# Altium schematic symbol library Passives.SchLib: 10 symbols
Pins are listed as number, name and electrical type; pins without a type are passive.

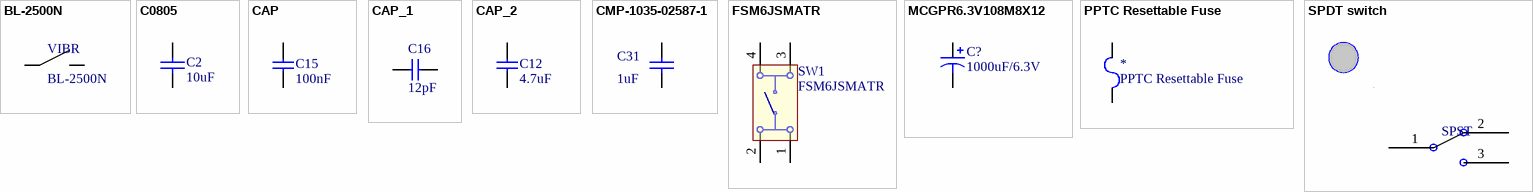
[diagram p0: symbols BL-2500N to SPDT switch]

## BL-2500N
designator VIBR
Vibration Sensor Switch
footprint BL-2500N (Vibration sensor switch)
pins: 1, 2

## C0805
designator C2, comment 10uF
Ceramic Chip Capacitor - Standard; Note: Footprint corresponds to dimensions for bulk cassette packaging. This case size has tightened tolerances.; Published: 17-Jul-2002; LatestRevisionDate: 19-Mar-2004; LatestRevisionNote: Silkscreen size reduced.; DatasheetDocument: Mar-2001; PackageDocument: Mar-2001; PackageReference: 0805; Publisher: Altium Limited; Code_JEITA: 0805; Code_IPC: 2012[0805]; ComponentLink1Description: Manufacturer Link; ComponentLink1URL: http://www.kemet.com/; ComponentLink2Description: Datasheet; ComponentLink2URL: http://www.kemet.com/kemet/web/homepage/kechome.nsf/vapubfilesname/F3102TA.pdf/$file/F3102TA.pdf; Value: 10uF
footprint 0805 (Chip Capacitor; Body 2.0 x 1.2 mm (LxW typ))
simulation model CAP (Capacitor)
signal-integrity model C0805
pins: 1, 2

## CAP
designator C15, comment 100nF
Capacitor, X7R, ±10%; Part Number: C0402-100n; Note: 16V; Artikkelnr Noca: 20039200; Artikkelnr Simpro: N.A.; Manufacturer: *; Manufacturer Part Number: *; Datasheet: *; LatestRevisionDate: 2009-11-23; Pin Count: 2; Publisher: Nordic Semiconductor; Published: 2009-05-08; Value: 100nF; Supplier: *; Supplier part number: *; 2nd source Supplier: *; 2nd source part number: *; Footprint Doc: 0402
footprint CAPC1005X04L
footprint CAP0603
pins: 1, 2

## CAP_1
designator C16, comment 12pF
Capacitor, NP0, ±2%; Part Number: C0402-12p; Note: 50V; Artikkelnr Noca: 20029159; Artikkelnr Simpro: N.A.; Manufacturer: *; Manufacturer Part Number: *; Datasheet: *; LatestRevisionDate: 2011-05-11; Pin Count: 2; Publisher: Nordic Semiconductor; Published: 2009-05-08; Value: 12pF; Supplier: *; Supplier part number: *; 2nd source Supplier: *; 2nd source part number: *; Footprint Doc: 0402
footprint CAPC1005X04L (Chip Capacitor, 2-Leads, Body 1.0x0.5mm, IPC High Density)
pins: 1, 2

## CAP_2
designator C12, comment 4.7uF
Capacitor, X5R, ±10%; Part Number: C0603-4µ7; Note: 6.3V; Artikkelnr Noca: 20069060; Artikkelnr Simpro: N.A.; Manufacturer: *; Manufacturer Part Number: *; Datasheet: *; LatestRevisionDate: 2009-11-23; Pin Count: 2; Publisher: Nordic Semiconductor; Published: 2009-05-08; Value: 4.7uF; Supplier: *; Supplier part number: *; 2nd source Supplier: *; 2nd source part number: *; Footprint Doc: 0603
footprint CAPC1608X06L
pins: 1, 2

## CMP-1035-02587-1
designator C31, comment 1uF
Case-EIA: 0603; Tolerance: ±5%; Rated Voltage: 25 V; Case-Metric: 1608; Technology: SMT; Max Thickness: 1 mm; Value: 1uF
footprint CAPC0603(1608)100_M (Chip Capacitor, Body 1.6x0.8mm, Height 1.0mm, IPC Low Density)
footprint CAPC0603(1608)100_L (Chip Capacitor, Body 1.6x0.8mm, Height 1.0mm, IPC High Density)
footprint CAPC1005L (Chip Capacitor, Body 1.0x0.5mm, IPC High Density)
footprint CAPC1005N (Chip Capacitor, Body 1.0x0.5mm, IPC Medium Density)
footprint CAPC1608L
pins: 1, 2
1 alternate drawing of the same symbol

## FSM6JSMATR
designator SW1
footprint FSMJSMA (TE switch SMT)
pins: 1, 2, 3, 4

## MCGPR6.3V108M8X12
designator C?, comment 1000uF/6.3V
CAP ALUM 1000UF 6.3V 20% RADIAL; PartNumber: ECA-1JHG471; ComponentLink1Description: Datasheet; PackageReference: ECA-1JHG471
footprint MCGPR6.3V108M8X12
pins: 1 +, 2 -

## PPTC Resettable Fuse
designator *
footprint FUSC0805
pins: 1, 2

## SPDT switch
designator SPST  (value not drawn)
footprint SPST switch (MGU switch)
pins: 1, 2, 3